# EAGLE library part E5J88-14LJ24-L (library open_covg)
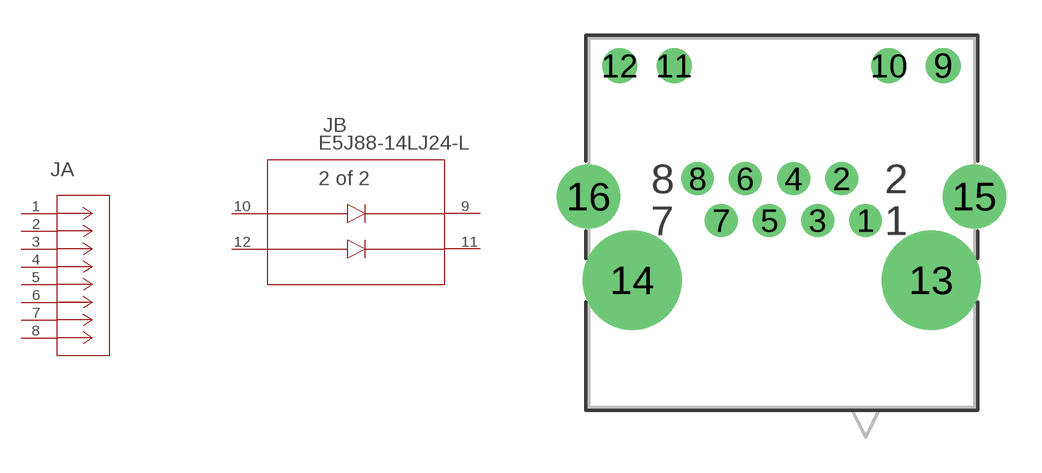
[diagram p22: symbol with the pads of CONN_E5J88-14LJ24-L_PUL; footprint CONN_E5J88-14LJ24-L_PUL]

Designator prefix J; gates A=CONN_08P_00C_1 B=E5J88-14LJ24-L_LED

## E5J88-14LJ24-L (BUILT_BY: EMA_Cory; COPYRIGHT: Copyright (C) 2018 Accelerated Designs. All rights reserved; MANUFACTURER_PART_NUMBER: E5J88-14LJ24-L; SOURCELIBRARY: Pulse_Electronics_2019-12-18; VENDOR: Pulse Electronics Corporation)  [CONN_E5J88-14LJ24-L_PUL]
1  A:1  pas
2  A:2  pas
3  A:3  pas
4  A:4  pas
5  A:5  pas
6  A:6  pas
7  A:7  pas
8  A:8  pas
9  B:9  pas
10  B:10  pas
11  B:11  pas
12  B:12  pas

## Footprint CONN_E5J88-14LJ24-L_PUL (pad centres in mm)
drill 0.889 pad 1.397: 1 7.137,0; 2 6.121,1.778; 3 5.105,0; 4 4.089,1.778; 5 3.048,0; 6 2.032,1.778; 7 1.016,0; 8 0,1.778
drill 0.991 pad 1.499: 9 10.439,6.579; 10 8.128,6.579; 11 -0.991,6.579; 12 -3.302,6.579
drill 3.2 pad 3.708: 13 9.931,-2.54; 14 -2.769,-2.54
drill 1.803 pad 2.311: 15 11.76,1.016; 16 -4.623,1.016